# Altium schematic symbol library FTDI.SchLib: 1 symbol
Pins are listed as number, name and electrical type; pins without a type are passive.

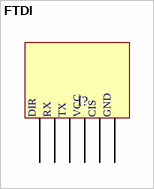
[diagram p0: symbol FTDI]

## FTDI
designator I?  (value not drawn)
footprint HPC_1x6
pins: 1 DIR, 2 RX, 3 TX, 4 VCC (power), 5 CIS, 6 GND (power)